# EAGLE library part REF192 (library Zoli2_2015-01-28)
VOLATAGE REFERENCE
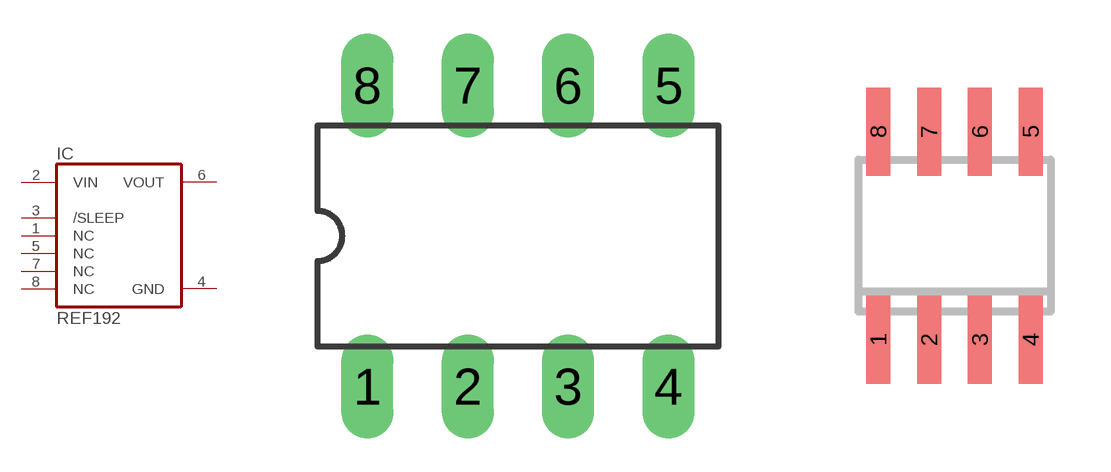
[diagram p15: symbol with the pads of DIL08; footprints DIL08, SO8]

Designator prefix IC

## REF192GP  [DIL08]
1  NC  nc
2  VIN  in
3  /SLEEP  pas
4  GND  pwr
5  NC  nc
6  VOUT  pwr
7  NC  nc
8  NC  nc

## REF192GS  [SO8]
Pads as for DIL08

## Footprint DIL08 (pad centres in mm)
Dual In Line 8
drill 0.813 long: 1 -3.81,-3.81; 2 -1.27,-3.81; 3 1.27,-3.81; 4 3.81,-3.81; 5 3.81,3.81; 6 1.27,3.81; 7 -1.27,3.81; 8 -3.81,3.81

## Footprint SO8 (pad centres in mm)
smd 0.6 x 2.2: 1 -1.905,-2.6; 2 -0.635,-2.6; 3 0.635,-2.6; 4 1.905,-2.6; 5 1.905,2.6; 6 0.635,2.6; 7 -0.635,2.6; 8 -1.905,2.6